# Altium schematic symbol library Schlib1.SchLib: 8 symbols
Pins are listed as number, name and electrical type; pins without a type are passive.

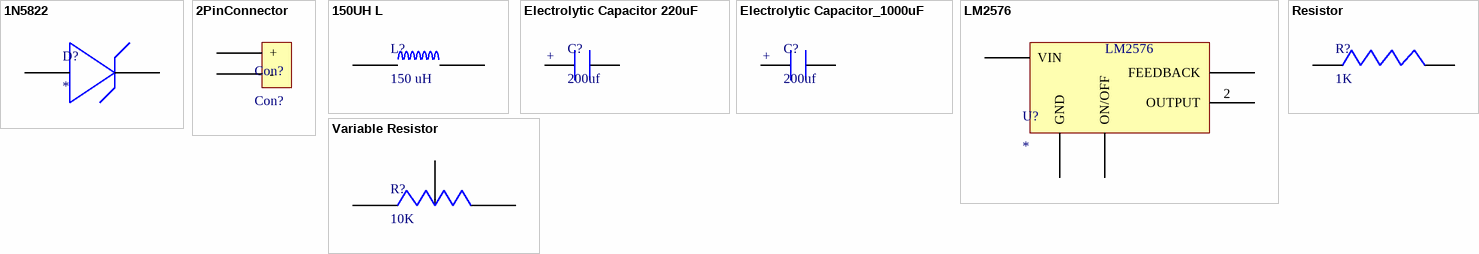
[diagram p0: symbols 1N5822 to Variable Resistor]

## 1N5822
designator D?
footprint 1n5822
pins: 1, 2

## 2PinConnector
designator Con?, comment Con?
footprint 2pin
pins: 1 +, 2 -

## 150UH L
designator L?, comment 150 uH
footprint 150uH Inductor
pins: 1, 2

## Electrolytic Capacitor 220uF
designator C?, comment 200uf
footprint 220uF Capacitor
pins: 1, 2
text: +

## Electrolytic Capacitor_1000uF
designator C?, comment 200uf
footprint 1000Uf Cap
pins: 1, 2
text: +

## LM2576
designator U?
footprint LM2576-TO63-5 (D2-PAK, 6-Pads, Body 7,42x8,51mm (max), IPC Medium Density)
pins: 1 VIN, 2 OUTPUT, 3 GND, 4 FEEDBACK, 5 ON/OFF

## Resistor
designator R?, comment 1K
footprint 1K 1206 Res
pins: 1, 2

## Variable Resistor
designator R?, comment 10K
footprint 10K Pot
pins: 1, 2, 3